# Altium integrated library a5001-P1150Pogo.IntLib: 7 symbols
Pins are listed as number, name and electrical type; pins without a type are passive.

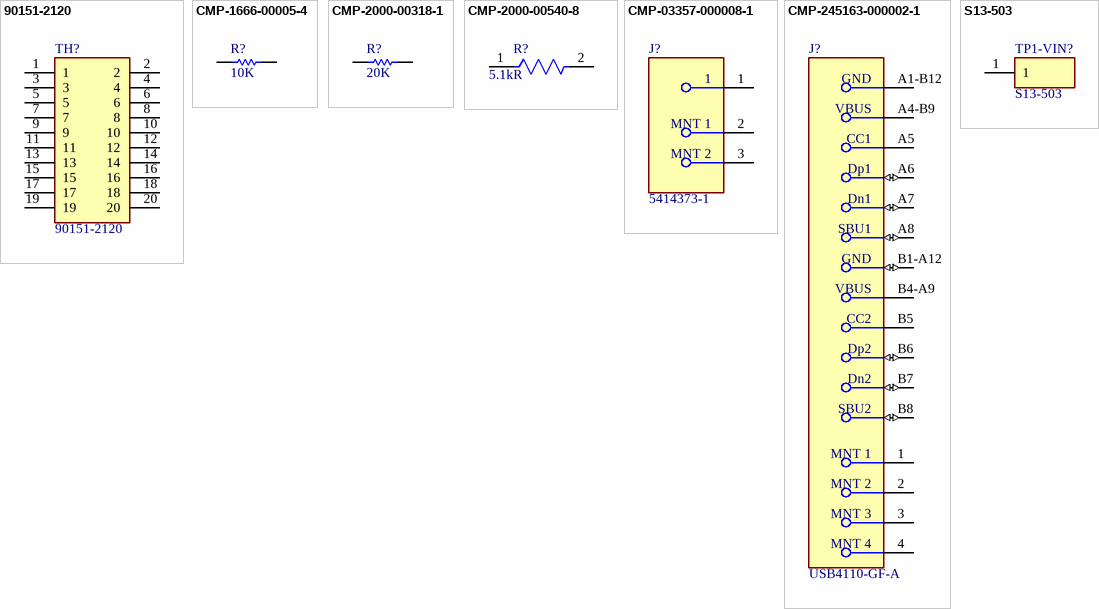
[diagram p0: symbols 90151-2120 to S13-503]

## 90151-2120
designator TH?
Connector; Manufacturer_Name: Molex; Datasheet Link: https://www.molex.com/pdm_docs/sd/901512120_sd.pdf; Height: 8.7mm; Manufacturer_Part_Number: 90151-2120; Mouser Part Number: 538-90151-2120; Mouser Price/Stock: https://www.mouser.co.uk/ProductDetail/Molex/90151-2120?qs=XmV31zLAuMHqFInYdcmaXg%3D%3D
footprint RHDR20W60P254_2X10_2540X498X870P
pins: 1, 2, 3, 4, 5, 6, 7, 8, 9, 10, 11, 12, 13, 14, 15, 16, 17, 18, 19, 20

## CMP-1666-00005-4
designator R?, comment Resistance: 10K  (hidden comment: CRCW060310K0FKEA)
Chip Resistor, 10 KOhm, +/- 1%, 100 mW, -55 to 155 degC, 0603 (1608 Metric), RoHS, Tape and Reel; Manufacturer: Vishay Semiconductor; Voltage Rating: 75 V; Max Operating Temperature: 155 degC; PackageDescription: 2-Pin Surface Mount Device, Body 1.575 x 0.85 mm; ComponentLink1Description: Manufacturer URL; RoHSCompliant: true; PackageReference: 0603; REACH SVHC: Unknown; Length: 1.55 mm; DatasheetVersion: 06/2012; Packaging: Tape and Reel; Min Operating Temperature: -55 degC; Mounting Technology: Surface Mount; ComponentLink2URL: https://datasheet.ciiva.com/11809/0900766b80d98afc-11809037.pdf; Height: 0.45 mm; ComponentLink2Description: Datasheet; Package Quantity: 5000; ComponentLink1URL: http://www.vishay.com/
footprint RESC1609X50X30NL8T20 (Chip Resistor, 2-Leads, Body 1.65x0.95mm, IPC Medium Density)
footprint RESC1609X50X30ML8T20 (Chip Resistor, 2-Leads, Body 1.65x0.95mm, IPC Low Density)
footprint RESC1609X50X30LL8T20 (Chip Resistor, 2-Leads, Body 1.65x0.95mm, IPC High Density)
pins: 1, 2

## CMP-2000-00318-1
designator R?, comment Resistance: 20K  (hidden comment: ERJ-3EKF2002V)
Manufacturer: Panasonic; Part Number: ERJ-3EKF2002V
footprint RESC1608X55X30ML15T15 (Chip Resistor, 2-Leads, Body 1.60x0.80mm, IPC Low Density)
footprint RESC1608X55X30NL15T15 (Chip Resistor, 2-Leads, Body 1.60x0.80mm, IPC Medium Density)
footprint RESC1608X55X30LL15T15 (Chip Resistor, 2-Leads, Body 1.60x0.80mm, IPC High Density)
pins: 1, 2
1 alternate drawing of the same symbol

## CMP-2000-00540-8
designator R?, comment Resistance: 5.1kR  (hidden comment: ERJ-3EKF5101V)
RES SMD 5.1K OHM 1% 1/10W 0603; Power Rating: 100mW; Temperature Coefficient: 100ppm/°C; Voltage Rating: 75V; Military Standard: Not; Case/Package: 0603; Packaging: Tape and Reel; Package Quantity: 1; Reach SVHC Compliant: Yes; Lead Free: Lead Free; Mount: Surface Mount; Size Code: 0603; Depth: 0.8mm; Resistance Tolerance: 1%; Number of Terminations: 2; Resistor Type: Thick Film; Width: 0.8mm; Construction: Rectangular; Series: ERJ; Radiation Hardening: No; Max Operating Temperature: 155°C; Features: Automotive AEC-Q200; Tolerance: 1%; Voltage Rating (DC): 75V; Length: 1.6mm; RoHS Compliant: Yes; Min Operating Temperature: -55°C; Case Code (Metric): 1608; Termination: SMD/SMT; Weight: 7.1E-05oz; Max Power Dissipation: 100mW; Contact Plating: Tin; Height: 0.022inch; Case Code (Imperial): 0603
footprint FP-ERJ3EK-MFG
footprint FP-ERJ3EK-IPC_A
footprint FP-ERJ3EK-IPC_B
footprint FP-ERJ3EK-IPC_C
pins: 1, 2

## CMP-03357-000008-1
designator J?, comment 5414373-1
CONN BNC JACK R/A 50 OHM PCB; Dielectric Material: Polymethylpentene; Body Material: Zinc; Gender: Female; PCB Mount Retention: Without; Body Plating: Nickel; Operating Frequency: 0 to 4 GHz; Wire/Cable Type: Coaxial; PCB Mounting Orientation: Right Angle; Sealable: No (Without); Frequency: 4GHz; Number of Positions: 1; Mating Cycles: 500; Insulation Resistance: 5GR; Voltage Rating: 500V; Impedance: 50R; Center Contact Plating: Gold; Polarity: Standard; Orientation: Right Angle; Housing Color: Silver; Min Operating Temperature: -55°C; Termination: Through Hole; Radiation Hardening: No; Packaging: Tray; Insulation Material: Polymethylpentene; Package Quantity: 50; Max Operating Temperature: 85°C; Mount: Through Hole; Fastening Type: Bayonet; Number of Ports: 1; Connector Type: BNC; Contact Plating: Gold; Series: -; Max Frequency: 4GHz; Contact Material: Bronze; Length: 25.4mm
footprint FP-5414373-1-MFG
pins: 1, 2 MNT 1, 3 MNT 2

## CMP-245163-000002-1
designator J?, comment USB4110-GF-A
CONN USB 2.0 TYPE-C R/A SMT; Manufacturer: GCT; Conn Orientation: Right Angle; Usb Standard: USB 2.0; Voltage Rating: 20V; Current Rating: 3/4.25/1.25/0.25A; Number Of Contacts: 16; Is Female: yes; Shielding: true; Standoff Height: 0.1mm; Octopart: https://octopart.com/usb4110-gf-a-gct-103941985; Temperature: -40°C to +85°C; RoHS: TRUE; Automotive: No; Contact Material: Gold,Nickel; Device Class L1: Connectors; Device Class L2: USB Connectors; Package: 0; Lead Free: Yes; ComponentLink2URL: https://gct.co/files/drawings/usb4110.pdf; Temperature Range High: +85°C; Temperature Range Low: -40°C; Height: 3.46mm; Manufacturer Part Number: USB4110-GF-A; ComponentLink2Description: Datasheet; Device Class L3: unset; Digikey Description: CONN USB 2.0 TYPE-C R/A SMT; Category: Conn
footprint FP-USB4110-GF-A-MFG
pins: 1 MNT 1, 2 MNT 2, 3 MNT 3, 4 MNT 4, A1-B12 GND, A4-B9 VBUS (power), A5 CC1 (power), A6 Dp1 (io), A7 Dn1 (io), A8 SBU1 (io), B1-A12 GND (io), B4-A9 VBUS (power), B5 CC2 (power), B6 Dp2 (io), B7 Dn2 (io), B8 SBU2 (io)

## S13-503
designator TP1-VIN?
Connector; Manufacturer_Name: Harwin; Datasheet Link: https://cdn.harwin.com/pdfs/S13-503.pdf; Height: 12.8mm; Manufacturer_Part_Number: S13-503; Mouser Part Number: 855-S13-503; Mouser Price/Stock: https://www.mouser.co.uk/ProductDetail/Harwin/S13-503?qs=ulE8k0yEMYZquhAzSGBeOA%3D%3D
footprint S13503
pins: 1